# EAGLE library part 750311838 (library AR_transformer)
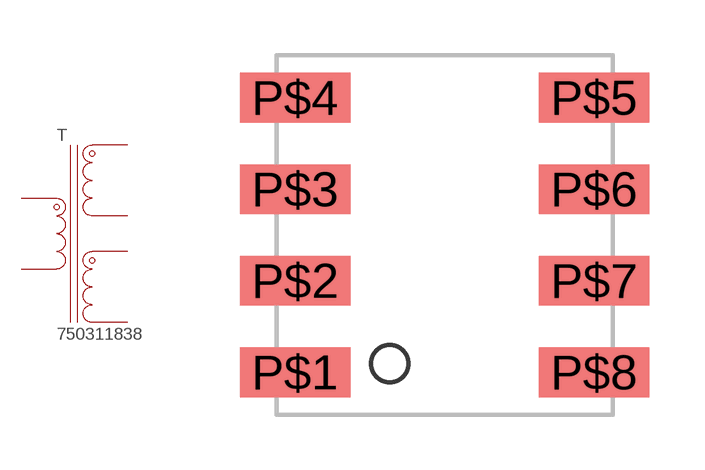
[diagram p0: symbol with the pads of 750311838; footprint 750311838]

Designator prefix T

## 750311838  [750311838]
P$3  PA
P$4  PB
P$5  S1A
P$6  S2B
P$7  S2A
P$8  S1B

## Footprint 750311838 (pad centres in mm)
smd 3 x 1.35: P$1 -4.064,-3.735; P$2 -4.064,-1.245; P$3 -4.064,1.245; P$4 -4.064,3.735; P$5 4.064,3.735; P$6 4.064,1.245; P$7 4.064,-1.245; P$8 4.064,-3.735